# EAGLE library part BMP280 (library QUAD_ICs)
Barometer BMP280 Product Page <https://www.bosch-sensortec.com/products/environmental-sensors/pressure-sensors/pressure-sensors-bmp280-1.html>
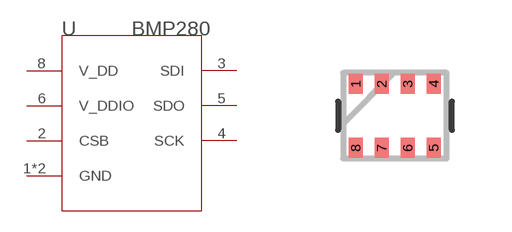
[diagram p4: symbol with the pads of LGA8_BMP280_BOS; footprint LGA8_BMP280_BOS]

Designator prefix U

## BMP280 (BUILT_BY: EMA_Kyle; COPYRIGHT: Copyright (C) 2018 Accelerated Designs. All rights reserved; MANUFACTURER_PART_NUMBER: BMP280; SOURCELIBRARY: Bosch_Sensortec_2020-02-14; VENDOR: Bosch)  [LGA8_BMP280_BOS]
1  GND  pas
2  CSB  pas
3  SDI  pas
4  SCK  pas
5  SDO  pas
6  V_DDIO  pas
7  GND  pas
8  V_DD  pas

## Footprint LGA8_BMP280_BOS (pad centres in mm)
smd 0.35 x 0.5: 1 -0.975,0.8; 2 -0.325,0.8; 3 0.325,0.8; 4 0.975,0.8; 5 0.975,-0.8; 6 0.325,-0.8; 7 -0.325,-0.8; 8 -0.975,-0.8